# Altium schematic symbol library FUSE_2Pin+HOLDER.Schlib: 1 symbol
Pins are listed as number, name and electrical type; pins without a type are passive.

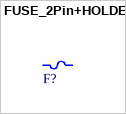
[diagram p0: symbol FUSE_2Pin+HOLDER]

## FUSE_2Pin+HOLDER
designator F?
Fuse
pins: 1, 2